# EAGLE library part B3717 (library Lasser)
Epcos B3717 SAW Filter 865-868 MHz Maximum insertion loss: 2.9 dB matched to 50 Ohm
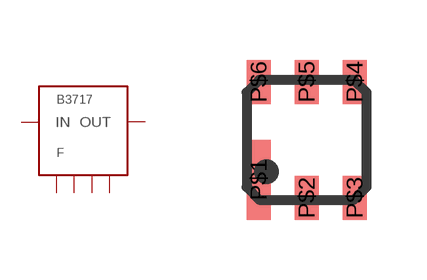
[diagram p1: symbol with the pads of B3717; footprint B3717]

Designator prefix F

## B3717B3717  [B3717]
P$1  P$1
P$2  IN
P$3  P$3
P$4  P$4
P$5  OUT
P$6  P$6

## Footprint B3717 (pad centres in mm)
Epcos DCC6c 3x3mm SAW-Filter Package Für Epcos SAWs
smd 0.6 x 2: P$1 -1.2,-1
smd 0.6 x 1.1: P$2 0,-1.45; P$3 1.2,-1.45; P$4 1.2,1.45; P$5 0,1.45; P$6 -1.2,1.45